# EAGLE library part XST_IDE_DAUGHTER (library xess)
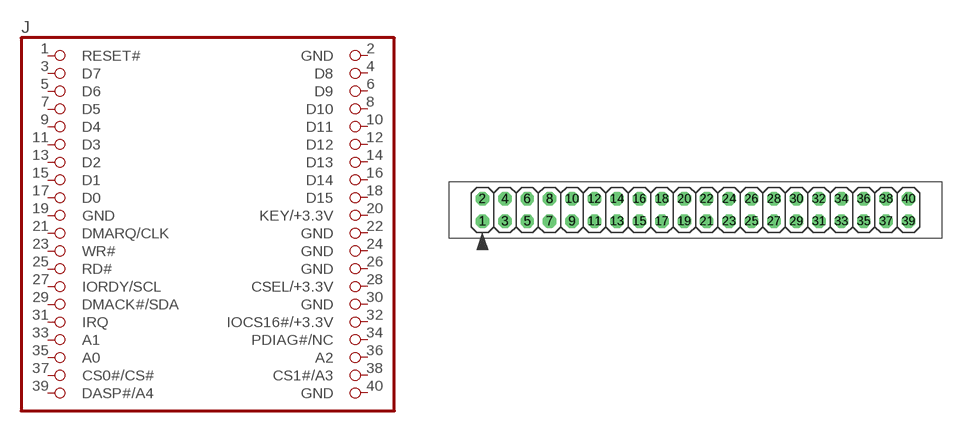
[diagram p80: symbol with the pads of XST_SLOT; footprint XST_SLOT]

Designator prefix J

## XST_IDE_DAUGHTER  [XST_SLOT]
1  RESET#  out
2  GND  pwr
3  D7
4  D8
5  D6
6  D9
7  D5
8  D10
9  D4
10  D11
11  D3
12  D12
13  D2
14  D13
15  D1
16  D14
17  D0
18  D15
19  GND  pwr
20  KEY/+3.3V  pwr
21  DMARQ/CLK
22  GND  pwr
23  WR#  out
24  GND  pwr
25  RD#  out
26  GND  pwr
27  IORDY/SCL  in
28  CSEL/+3.3V  pwr
29  DMACK#/SDA
30  GND  pwr
31  IRQ  in
32  IOCS16#/+3.3V  pwr
33  A1  out
34  PDIAG#/NC  nc
35  A0  out
36  A2  out
37  CS0#/CS#  out
38  CS1#/A3  out
39  DASP#/A4  out
40  GND  pwr

## Footprint XST_SLOT (pad centres in mm)
drill 1.016 octagon: 1 -24.13,-1.27; 2 -24.13,1.27; 3 -21.59,-1.27; 4 -21.59,1.27; 5 -19.05,-1.27; 6 -19.05,1.27; 7 -16.51,-1.27; 8 -16.51,1.27; 9 -13.97,-1.27; 10 -13.97,1.27; 11 -11.43,-1.27; 12 -11.43,1.27; 13 -8.89,-1.27; 14 -8.89,1.27; 15 -6.35,-1.27; 16 -6.35,1.27; 17 -3.81,-1.27; 18 -3.81,1.27; 19 -1.27,-1.27; 20 -1.27,1.27; 21 1.27,-1.27; 22 1.27,1.27; 23 3.81,-1.27; 24 3.81,1.27; 25 6.35,-1.27; 26 6.35,1.27; 27 8.89,-1.27; 28 8.89,1.27; 29 11.43,-1.27; 30 11.43,1.27; 31 13.97,-1.27; 32 13.97,1.27; 33 16.51,-1.27; 34 16.51,1.27; 35 19.05,-1.27; 36 19.05,1.27; 37 21.59,-1.27; 38 21.59,1.27; 39 24.13,-1.27; 40 24.13,1.27